# EAGLE library part PIC18F25K83 (library IntegratedLib)
Microcontrolador PIC18F25K83 (SOIC-28)
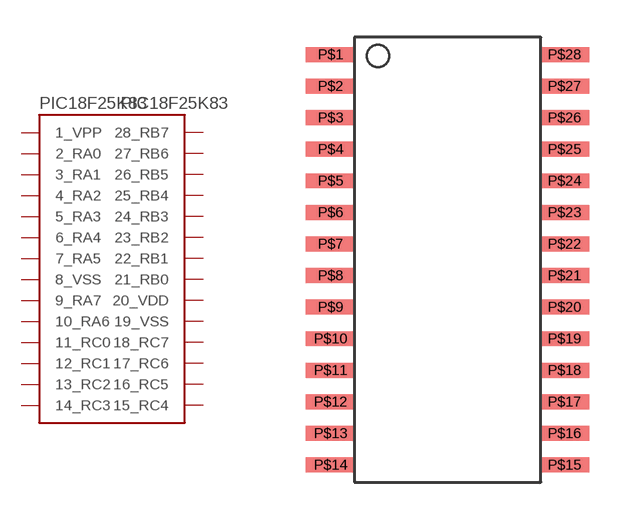
[diagram p20: symbol with the pads of SOIC-28; footprint SOIC-28]

Designator prefix PIC18F25K83

## PIC18F25K83 (FABRICANTE: MICROCHIP; PARTNUMBER: PIC18F25K83SO; TIPO: CIRCUITO INTEGRADO)  [SOIC-28]
P$1  1_VPP
P$2  2_RA0
P$3  3_RA1
P$4  4_RA2
P$5  5_RA3
P$6  6_RA4
P$7  7_RA5
P$8  8_VSS
P$9  9_RA7
P$10  10_RA6
P$11  11_RC0
P$12  12_RC1
P$13  13_RC2
P$14  14_RC3
P$15  15_RC4
P$16  16_RC5
P$17  17_RC6
P$18  18_RC7
P$19  19_VSS
P$20  20_VDD
P$21  21_RB0
P$22  22_RB1
P$23  23_RB2
P$24  24_RB3
P$25  25_RB4
P$26  26_RB5
P$27  27_RB6
P$28  28_RB7

## Footprint SOIC-28 (pad centres in mm)
smd 2 x 0.6: P$1 -4.7,8.255; P$2 -4.7,6.985; P$3 -4.7,5.715; P$4 -4.7,4.445; P$5 -4.7,3.175; P$6 -4.7,1.905; P$7 -4.7,0.635; P$8 -4.7,-0.635; P$9 -4.7,-1.905; P$10 -4.7,-3.175; P$11 -4.7,-4.445; P$12 -4.7,-5.715; P$13 -4.7,-6.985; P$14 -4.7,-8.255; P$15 4.7,-8.255; P$16 4.7,-6.985; P$17 4.7,-5.715; P$18 4.7,-4.445; P$19 4.7,-3.175; P$20 4.7,-1.905; P$21 4.7,-0.635; P$22 4.7,0.635; P$23 4.7,1.905; P$24 4.7,3.175; P$25 4.7,4.445; P$26 4.7,5.715; P$27 4.7,6.985; P$28 4.7,8.255